# Altium integrated library NXP_I2C_Led_Controllers.IntLib: 2 symbols
Pins are listed as number, name and electrical type; pins without a type are passive.

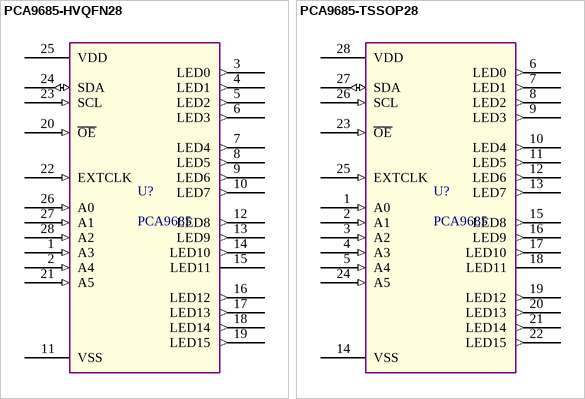
[diagram p0: symbols PCA9685-HVQFN28 to PCA9685-TSSOP28]

## PCA9685-HVQFN28
designator U?, comment PCA9685
16-channel, 12-bit PWM Fm+ I2C-bus LED controller
footprint QFN65P600X600X100-28_T410X410 (IPC-7351C for HVQFN28)
pins: 1 A3 (in) "address input 3", 2 A4 (in) "address input 4", 3 LED0 (out) "LED driver 0", 4 LED1 (out) "LED driver 1", 5 LED2 (out) "LED driver 2", 6 LED3 (out) "LED driver 3", 7 LED4 (out) "LED driver 4", 8 LED5 (out) "LED driver 5", 9 LED6 (out) "LED driver 6", 10 LED7 (out) "LED driver 7", 11 VSS (power) "supply ground", 12 LED8 (out) "LED driver 8", 13 LED9 (out) "LED driver 9", 14 LED10 (out) "LED driver 10", 15 LED11 (power) "LED driver 11", 16 LED12 (out) "LED driver 12", 17 LED13 (out) "LED driver 13", 18 LED14 (out) "LED driver 14", 19 LED15 (out) "LED driver 15", 20 ~{OE} (in) "active LOW output enable", 21 A5 (in) "address input 5", 22 EXTCLK (in) "external clock input. This pin must be grounded when this feature is not used", 23 SCL (in) "serial clock line", 24 SDA (io) "serial data line", 25 VDD (power) "supply voltage", 26 A0 (in) "address input 0", 27 A1 (in) "address input 1", 28 A2 (in) "address input 2", PAD hidden

## PCA9685-TSSOP28
designator U?, comment PCA9685
16-channel, 12-bit PWM Fm+ I2C-bus LED controller
footprint SOP65P640X110-28 (IPC-7351C TSSOP28)
pins: 1 A0 (in) "address input 0", 2 A1 (in) "address input 1", 3 A2 (in) "address input 2", 4 A3 (in) "address input 3", 5 A4 (in) "address input 4", 6 LED0 (out) "LED driver 0", 7 LED1 (out) "LED driver 1", 8 LED2 (out) "LED driver 2", 9 LED3 (out) "LED driver 3", 10 LED4 (out) "LED driver 4", 11 LED5 (out) "LED driver 5", 12 LED6 (out) "LED driver 6", 13 LED7 (out) "LED driver 7", 14 VSS (power) "supply ground", 15 LED8 (out) "LED driver 8", 16 LED9 (out) "LED driver 9", 17 LED10 (out) "LED driver 10", 18 LED11 (power) "LED driver 11", 19 LED12 (out) "LED driver 12", 20 LED13 (out) "LED driver 13", 21 LED14 (out) "LED driver 14", 22 LED15 (out) "LED driver 15", 23 ~{OE} (in) "active LOW output enable", 24 A5 (in) "address input 5", 25 EXTCLK (in) "external clock input. This pin must be grounded when this feature is not used", 26 SCL (in) "serial clock line", 27 SDA (io) "serial data line", 28 VDD (power) "supply voltage"